# Altium integrated library TI_Logic_Specialty_Logic.IntLib: 2504 symbols (part 11 of 81)
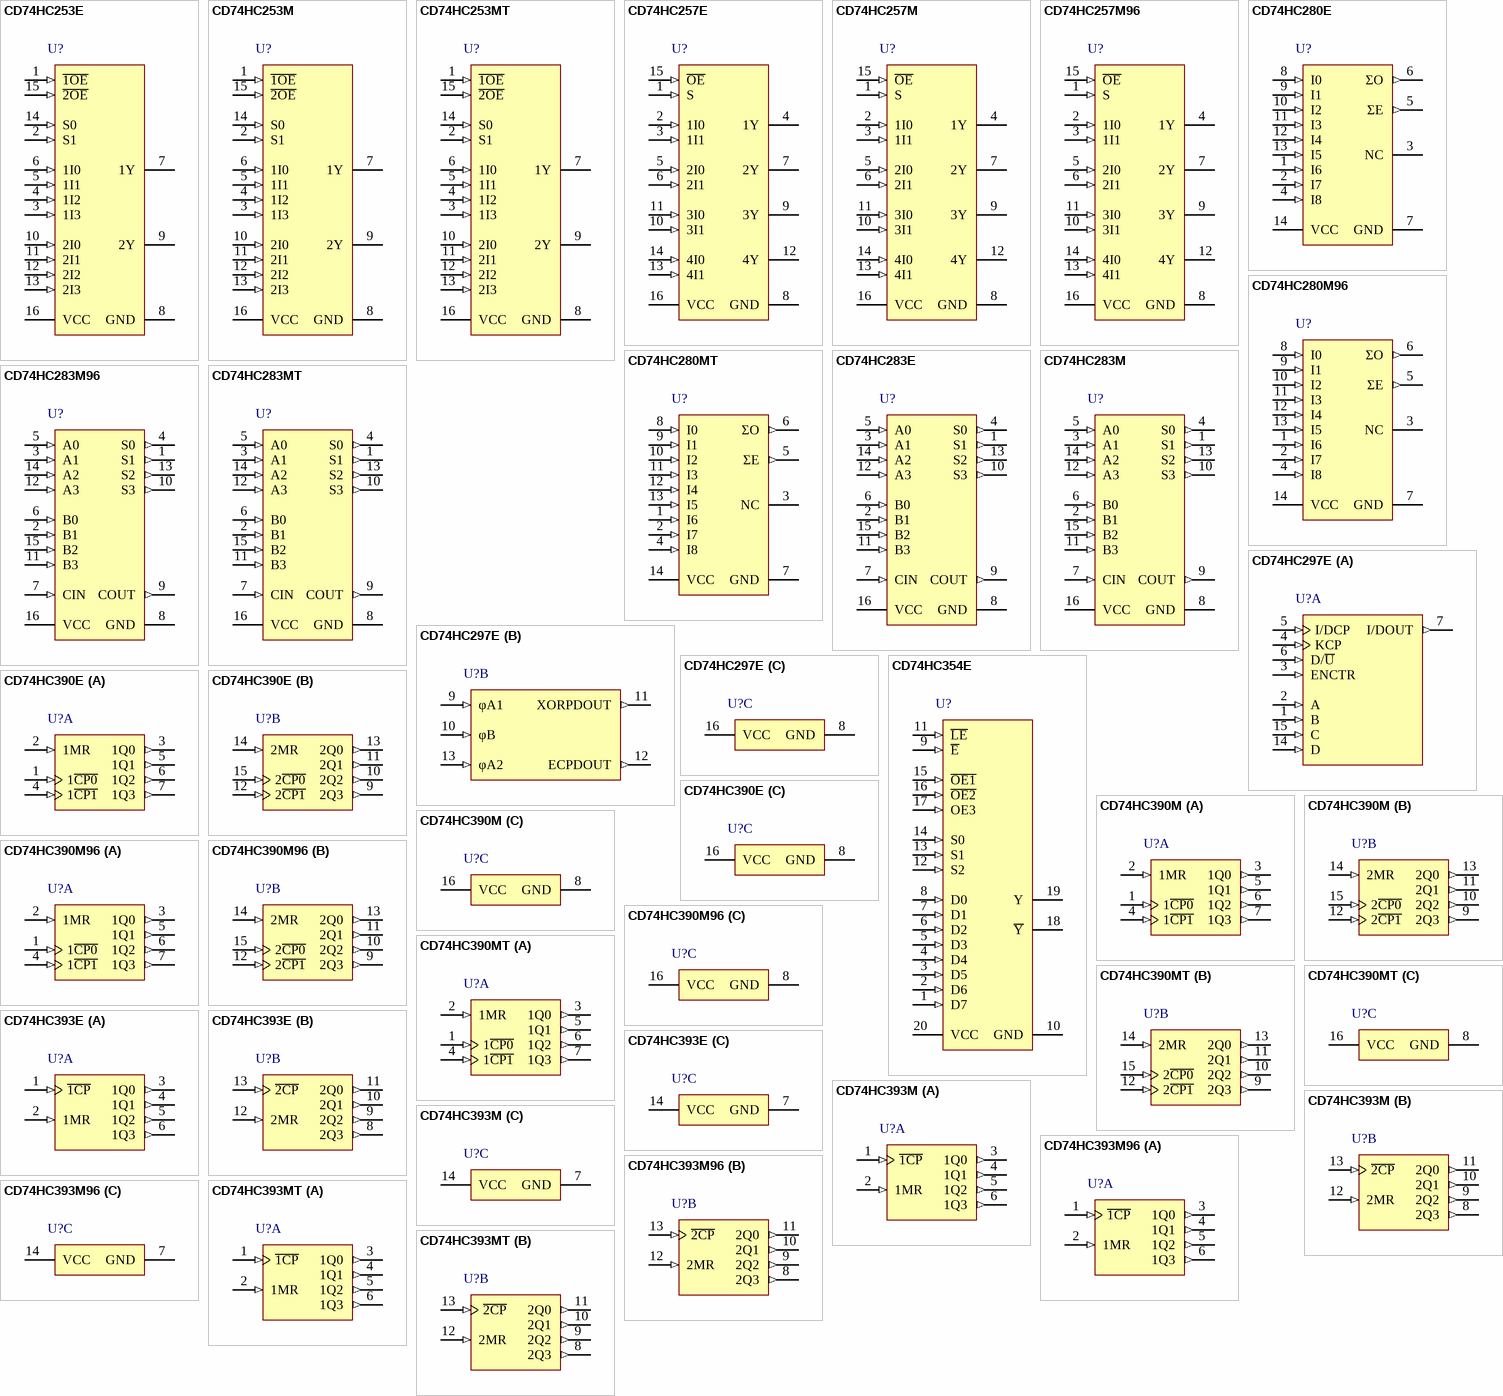
[diagram p114: symbols CD74HC253E to CD74HC393MT]

## CD74HC253E
designator U?
High Speed CMOS Logic Dual 4-Input Multiplexers, N0016A, TUBE; Generic Part Number: CD74HC253; Manufacturer: Texas Instruments; PartNumber: CD74HC253E; VCC(Min)(V): 2; VCC(Max)(V): 6; Function: Encoder/Multiplexer; ICC @ Nom Voltage(Max)(mA): 0.08; Input Type: LVTTL/CMOS; Bits(#): 4; F @ Nom Voltage(Max)(Mhz): 28; Configuration: 4：1; Rating: Catalog; Technology Family: HC; Voltage(Nom)(V): 3.3,5; Schmitt Trigger: No; Output Drive (IOL/IOH)(Max)(mA): 7.8/-7.8; tpd @ Nom Voltage(Max)(ns): 35; DatasheetVersion: SCHS170B; PackageReference: N0016A; Supplier 1: Mouser; Supplier Part Number 1: 595-CD74HC253E; Supplier 2: Digi-Key; Supplier Part Number 2: 296-33059-5-ND; Output Type: CMOS; Operating Temperature Range(C): -55 to 125; Type: 3-State Output; Channels(#): 2; Code_JEDEC: MS-001; ComponentLink1Description: Manufacturer URL; ComponentLink1URL: http://www.ti.com/; ComponentLink2Description: Datasheet; ComponentLink2URL: http://www.ti.com/lit/ds/symlink/cd74hc253.pdf; ComponentLink3Description: Package Specification; ComponentLink3URL: http://www.ti.com/lit/ml/mpdi002c/mpdi002c.pdf
footprint N0016A (DIP, 16-Leads, Body 19.7x6.6mm, Pitch 2.54mm)
pins: 1 ~{1OE} (in), 2 S1 (in), 3 1I3 (in), 4 1I2 (in), 5 1I1 (in), 6 1I0 (in), 7 1Y (hiz), 8 GND (power), 9 2Y (hiz), 10 2I0 (in), 11 2I1 (in), 12 2I2 (in), 13 2I3 (in), 14 S0 (in), 15 ~{2OE} (in), 16 VCC (power)

## CD74HC253M
designator U?
High Speed CMOS Logic Dual 4-Input Multiplexers, D0016A, TUBE; Generic Part Number: CD74HC253; Manufacturer: Texas Instruments; PartNumber: CD74HC253M; VCC(Min)(V): 2; VCC(Max)(V): 6; Function: Encoder/Multiplexer; ICC @ Nom Voltage(Max)(mA): 0.08; Input Type: LVTTL/CMOS; Bits(#): 4; F @ Nom Voltage(Max)(Mhz): 28; Configuration: 4：1; Rating: Catalog; Technology Family: HC; Voltage(Nom)(V): 3.3,5; Schmitt Trigger: No; Output Drive (IOL/IOH)(Max)(mA): 7.8/-7.8; tpd @ Nom Voltage(Max)(ns): 35; DatasheetVersion: SCHS170B; PackageReference: D0016A; Supplier 1: Mouser; Supplier Part Number 1: 595-CD74HC253M; Supplier 2: Digi-Key; Supplier Part Number 2: 296-33060-5-ND; Output Type: CMOS; Operating Temperature Range(C): -55 to 125; Type: 3-State Output; Channels(#): 2; Code_JEDEC: MS-012 variation AC; ComponentLink1Description: Manufacturer URL; ComponentLink1URL: http://www.ti.com/; ComponentLink2Description: Datasheet; ComponentLink2URL: http://www.ti.com/lit/ds/symlink/cd74hc253.pdf; ComponentLink3Description: Package Specification; ComponentLink3URL: http://www.ti.com/lit/ml/mpds178g/mpds178g.pdf
footprint D0016A_N (SOIC, 16-Leads, Body 10x4mm, Pitch 1.27mm, IPC Medium Density)
footprint D0016A_M (SOIC, 16-Leads, Body 10x4mm, Pitch 1.27mm, IPC Low Density)
footprint D0016A_L (SOIC, 16-Leads, Body 10x4mm, Pitch 1.27mm, IPC High Density)
pins: 1 ~{1OE} (in), 2 S1 (in), 3 1I3 (in), 4 1I2 (in), 5 1I1 (in), 6 1I0 (in), 7 1Y (hiz), 8 GND (power), 9 2Y (hiz), 10 2I0 (in), 11 2I1 (in), 12 2I2 (in), 13 2I3 (in), 14 S0 (in), 15 ~{2OE} (in), 16 VCC (power)

## CD74HC253MT
designator U?
High Speed CMOS Logic Dual 4-Input Multiplexers, D0016A, SMALL T&R; Generic Part Number: CD74HC253; Manufacturer: Texas Instruments; PartNumber: CD74HC253MT; VCC(Min)(V): 2; VCC(Max)(V): 6; Function: Encoder/Multiplexer; ICC @ Nom Voltage(Max)(mA): 0.08; Input Type: LVTTL/CMOS; Bits(#): 4; F @ Nom Voltage(Max)(Mhz): 28; Configuration: 4：1; Rating: Catalog; Technology Family: HC; Voltage(Nom)(V): 3.3,5; Schmitt Trigger: No; Output Drive (IOL/IOH)(Max)(mA): 7.8/-7.8; tpd @ Nom Voltage(Max)(ns): 35; DatasheetVersion: SCHS170B; PackageReference: D0016A; Supplier 1: Mouser; Supplier Part Number 1: 595-CD74HC253MT; Supplier 2: Digi-Key; Supplier Part Number 2: 296-32063-2-ND; Supplier 3: Digi-Key; Supplier Part Number 3: 296-32063-1-ND; Supplier 4: Digi-Key; Supplier Part Number 4: 296-32063-6-ND; Output Type: CMOS; Operating Temperature Range(C): -55 to 125; Type: 3-State Output; Channels(#): 2; Code_JEDEC: MS-012 variation AC; ComponentLink1Description: Manufacturer URL; ComponentLink1URL: http://www.ti.com/; ComponentLink2Description: Datasheet; ComponentLink2URL: http://www.ti.com/lit/ds/symlink/cd74hc253.pdf; ComponentLink3Description: Package Specification; ComponentLink3URL: http://www.ti.com/lit/ml/mpds178g/mpds178g.pdf
footprint D0016A_N (SOIC, 16-Leads, Body 10x4mm, Pitch 1.27mm, IPC Medium Density)
footprint D0016A_M (SOIC, 16-Leads, Body 10x4mm, Pitch 1.27mm, IPC Low Density)
footprint D0016A_L (SOIC, 16-Leads, Body 10x4mm, Pitch 1.27mm, IPC High Density)
pins: 1 ~{1OE} (in), 2 S1 (in), 3 1I3 (in), 4 1I2 (in), 5 1I1 (in), 6 1I0 (in), 7 1Y (hiz), 8 GND (power), 9 2Y (hiz), 10 2I0 (in), 11 2I1 (in), 12 2I2 (in), 13 2I3 (in), 14 S0 (in), 15 ~{2OE} (in), 16 VCC (power)

## CD74HC257E
designator U?
High Speed CMOS Logic Quad 2-Input Multiplexers with Non-Inverting 3-State Outputs, N0016A, TUBE; Generic Part Number: CD74HC257; Manufacturer: Texas Instruments; PartNumber: CD74HC257E; VCC(Min)(V): 2; VCC(Max)(V): 6; Function: Encoder/Multiplexer; ICC @ Nom Voltage(Max)(mA): 0.08; Input Type: LVTTL/CMOS; F @ Nom Voltage(Max)(Mhz): 28; Configuration: 2：1; Channels(#): 4; Rating: Catalog; Technology Family: HC; Voltage(Nom)(V): 3.3,5; Schmitt Trigger: No; Output Drive (IOL/IOH)(Max)(mA): 7.8/-7.8; tpd @ Nom Voltage(Max)(ns): 38; DatasheetVersion: SCHS171D; PackageReference: N0016A; Supplier 1: Mouser; Supplier Part Number 1: 595-CD74HC257E; Supplier 2: Digi-Key; Supplier Part Number 2: 296-33061-5-ND; Output Type: CMOS; Bits(#): 2; Operating Temperature Range(C): -55 to 125; Type: 3-State Output; Code_JEDEC: MS-001; ComponentLink1Description: Manufacturer URL; ComponentLink1URL: http://www.ti.com/; ComponentLink2Description: Datasheet; ComponentLink2URL: http://www.ti.com/lit/ds/symlink/cd74hc257.pdf; ComponentLink3Description: Package Specification; ComponentLink3URL: http://www.ti.com/lit/ml/mpdi002c/mpdi002c.pdf
footprint N0016A (DIP, 16-Leads, Body 19.7x6.6mm, Pitch 2.54mm)
pins: 1 S (in), 2 1I0 (in), 3 1I1 (in), 4 1Y (hiz), 5 2I0 (in), 6 2I1 (in), 7 2Y (hiz), 8 GND (power), 9 3Y (hiz), 10 3I1 (in), 11 3I0 (in), 12 4Y (hiz), 13 4I1 (in), 14 4I0 (in), 15 ~{OE} (in), 16 VCC (power)

## CD74HC257M
designator U?
High Speed CMOS Logic Quad 2-Input Multiplexers with Non-Inverting 3-State Outputs, D0016A, TUBE; Generic Part Number: CD74HC257; Manufacturer: Texas Instruments; PartNumber: CD74HC257M; VCC(Min)(V): 2; VCC(Max)(V): 6; Function: Encoder/Multiplexer; ICC @ Nom Voltage(Max)(mA): 0.08; Input Type: LVTTL/CMOS; F @ Nom Voltage(Max)(Mhz): 28; Configuration: 2：1; Channels(#): 4; Rating: Catalog; Technology Family: HC; Voltage(Nom)(V): 3.3,5; Schmitt Trigger: No; Output Drive (IOL/IOH)(Max)(mA): 7.8/-7.8; tpd @ Nom Voltage(Max)(ns): 38; DatasheetVersion: SCHS171D; PackageReference: D0016A; Supplier 1: Mouser; Supplier Part Number 1: 595-CD74HC257M; Supplier 2: Digi-Key; Supplier Part Number 2: 296-33062-5-ND; Output Type: CMOS; Bits(#): 2; Operating Temperature Range(C): -55 to 125; Type: 3-State Output; Code_JEDEC: MS-012 variation AC; ComponentLink1Description: Manufacturer URL; ComponentLink1URL: http://www.ti.com/; ComponentLink2Description: Datasheet; ComponentLink2URL: http://www.ti.com/lit/ds/symlink/cd74hc257.pdf; ComponentLink3Description: Package Specification; ComponentLink3URL: http://www.ti.com/lit/ml/mpds178g/mpds178g.pdf
footprint D0016A_N (SOIC, 16-Leads, Body 10x4mm, Pitch 1.27mm, IPC Medium Density)
footprint D0016A_M (SOIC, 16-Leads, Body 10x4mm, Pitch 1.27mm, IPC Low Density)
footprint D0016A_L (SOIC, 16-Leads, Body 10x4mm, Pitch 1.27mm, IPC High Density)
pins: 1 S (in), 2 1I0 (in), 3 1I1 (in), 4 1Y (hiz), 5 2I0 (in), 6 2I1 (in), 7 2Y (hiz), 8 GND (power), 9 3Y (hiz), 10 3I1 (in), 11 3I0 (in), 12 4Y (hiz), 13 4I1 (in), 14 4I0 (in), 15 ~{OE} (in), 16 VCC (power)

## CD74HC257M96
designator U?
High Speed CMOS Logic Quad 2-Input Multiplexers with Non-Inverting 3-State Outputs, D0016A, LARGE T&R; Generic Part Number: CD74HC257; Manufacturer: Texas Instruments; PartNumber: CD74HC257M96; VCC(Min)(V): 2; VCC(Max)(V): 6; Function: Encoder/Multiplexer; ICC @ Nom Voltage(Max)(mA): 0.08; Input Type: LVTTL/CMOS; F @ Nom Voltage(Max)(Mhz): 28; Configuration: 2：1; Channels(#): 4; Rating: Catalog; Technology Family: HC; Voltage(Nom)(V): 3.3,5; Schmitt Trigger: No; Output Drive (IOL/IOH)(Max)(mA): 7.8/-7.8; tpd @ Nom Voltage(Max)(ns): 38; DatasheetVersion: SCHS171D; PackageReference: D0016A; Supplier 1: Mouser; Supplier Part Number 1: 595-CD74HC257M96; Supplier 2: Digi-Key; Supplier Part Number 2: CD74HC257M96-ND; Output Type: CMOS; Bits(#): 2; Operating Temperature Range(C): -55 to 125; Type: 3-State Output; Code_JEDEC: MS-012 variation AC; ComponentLink1Description: Manufacturer URL; ComponentLink1URL: http://www.ti.com/; ComponentLink2Description: Datasheet; ComponentLink2URL: http://www.ti.com/lit/ds/symlink/cd74hc257.pdf; ComponentLink3Description: Package Specification; ComponentLink3URL: http://www.ti.com/lit/ml/mpds178g/mpds178g.pdf
footprint D0016A_N (SOIC, 16-Leads, Body 10x4mm, Pitch 1.27mm, IPC Medium Density)
footprint D0016A_M (SOIC, 16-Leads, Body 10x4mm, Pitch 1.27mm, IPC Low Density)
footprint D0016A_L (SOIC, 16-Leads, Body 10x4mm, Pitch 1.27mm, IPC High Density)
pins: 1 S (in), 2 1I0 (in), 3 1I1 (in), 4 1Y (hiz), 5 2I0 (in), 6 2I1 (in), 7 2Y (hiz), 8 GND (power), 9 3Y (hiz), 10 3I1 (in), 11 3I0 (in), 12 4Y (hiz), 13 4I1 (in), 14 4I0 (in), 15 ~{OE} (in), 16 VCC (power)

## CD74HC280E
designator U?
High Speed CMOS Logic 9-Bit Odd/Even Parity Generator/Checker, N0014A, TUBE; Generic Part Number: CD74HC280; Manufacturer: Texas Instruments; PartNumber: CD74HC280E; VCC(Min)(V): 2; VCC(Max)(V): 6; Inputs: 9; ICC @ Nom Voltage(Max)(mA): 0.08; Input Type: LVTTL/CMOS; F @ Nom Voltage(Max)(Mhz): 28; Rating: Catalog; Technology Family: HC; Voltage(Nom)(V): 3.3,5; Schmitt Trigger: No; Output Drive (IOL/IOH)(Max)(mA): 5.2/-5.2; tpd @ Nom Voltage(Max)(ns): 43; DatasheetVersion: SCHS175D; PackageReference: N0014A; Supplier 1: Mouser; Supplier Part Number 1: 595-CD74HC280E; Supplier 2: Digi-Key; Supplier Part Number 2: 296-33065-5-ND; Output Type: CMOS; Function: Parity; Bits(#): 2; Operating Temperature Range(C): -55 to 125; Type: Other; Code_JEDEC: MS-001; ComponentLink1Description: Manufacturer URL; ComponentLink1URL: http://www.ti.com/; ComponentLink2Description: Datasheet; ComponentLink2URL: http://www.ti.com/lit/ds/symlink/cd74hc280.pdf; ComponentLink3Description: Package Specification; ComponentLink3URL: http://www.ti.com/lit/ml/mpdi002c/mpdi002c.pdf
footprint N0014A (DIP, 14-Leads, Body 19.7x6.6mm, Pitch 2.54mm)
pins: 1 I6 (in), 2 I7 (in), 3 NC, 4 I8 (in), 5 ΣE (out), 6 ΣO (out), 7 GND (power), 8 I0 (in), 9 I1 (in), 10 I2 (in), 11 I3 (in), 12 I4 (in), 13 I5 (in), 14 VCC (power)

## CD74HC280M96
designator U?
High Speed CMOS Logic 9-Bit Odd/Even Parity Generator/Checker, D0014A, LARGE T&R; Generic Part Number: CD74HC280; Manufacturer: Texas Instruments; PartNumber: CD74HC280M96; VCC(Min)(V): 2; VCC(Max)(V): 6; Inputs: 9; ICC @ Nom Voltage(Max)(mA): 0.08; Input Type: LVTTL/CMOS; F @ Nom Voltage(Max)(Mhz): 28; Rating: Catalog; Technology Family: HC; Voltage(Nom)(V): 3.3,5; Schmitt Trigger: No; Output Drive (IOL/IOH)(Max)(mA): 5.2/-5.2; tpd @ Nom Voltage(Max)(ns): 43; DatasheetVersion: SCHS175D; PackageReference: D0014A; Supplier 1: Mouser; Supplier Part Number 1: 595-CD74HC280M96; Supplier 2: Digi-Key; Supplier Part Number 2: 296-14518-2-ND; Supplier 3: Digi-Key; Supplier Part Number 3: 296-14518-1-ND; Supplier 4: Digi-Key; Supplier Part Number 4: 296-14518-6-ND; Output Type: CMOS; Function: Parity; Bits(#): 2; Operating Temperature Range(C): -55 to 125; Type: Other; Code_JEDEC: MS-012; ComponentLink1Description: Manufacturer URL; ComponentLink1URL: http://www.ti.com/; ComponentLink2Description: Datasheet; ComponentLink2URL: http://www.ti.com/lit/ds/symlink/cd74hc280.pdf; ComponentLink3Description: Package Specification; ComponentLink3URL: http://www.ti.com/lit/ml/mpds177g/mpds177g.pdf
footprint D0014A_N (SOIC, 14-Leads, Body 8.75x4mm, Pitch 1.27mm, IPC Medium Density)
footprint D0014A_M (SOIC, 14-Leads, Body 8.75x4mm, Pitch 1.27mm, IPC Low Density)
footprint D0014A_L (SOIC, 14-Leads, Body 8.75x4mm, Pitch 1.27mm, IPC High Density)
pins: 1 I6 (in), 2 I7 (in), 3 NC, 4 I8 (in), 5 ΣE (out), 6 ΣO (out), 7 GND (power), 8 I0 (in), 9 I1 (in), 10 I2 (in), 11 I3 (in), 12 I4 (in), 13 I5 (in), 14 VCC (power)

## CD74HC280MT
designator U?
High Speed CMOS Logic 9-Bit Odd/Even Parity Generator/Checker, D0014A, SMALL T&R; Generic Part Number: CD74HC280; Manufacturer: Texas Instruments; PartNumber: CD74HC280MT; VCC(Min)(V): 2; VCC(Max)(V): 6; Inputs: 9; ICC @ Nom Voltage(Max)(mA): 0.08; Input Type: LVTTL/CMOS; F @ Nom Voltage(Max)(Mhz): 28; Rating: Catalog; Technology Family: HC; Voltage(Nom)(V): 3.3,5; Schmitt Trigger: No; Output Drive (IOL/IOH)(Max)(mA): 5.2/-5.2; tpd @ Nom Voltage(Max)(ns): 43; DatasheetVersion: SCHS175D; PackageReference: D0014A; Supplier 1: Mouser; Supplier Part Number 1: 595-CD74HC280MT; Supplier 2: Digi-Key; Supplier Part Number 2: 296-32065-2-ND; Supplier 3: Digi-Key; Supplier Part Number 3: 296-32065-1-ND; Supplier 4: Digi-Key; Supplier Part Number 4: 296-32065-6-ND; Output Type: CMOS; Function: Parity; Bits(#): 2; Operating Temperature Range(C): -55 to 125; Type: Other; Code_JEDEC: MS-012; ComponentLink1Description: Manufacturer URL; ComponentLink1URL: http://www.ti.com/; ComponentLink2Description: Datasheet; ComponentLink2URL: http://www.ti.com/lit/ds/symlink/cd74hc280.pdf; ComponentLink3Description: Package Specification; ComponentLink3URL: http://www.ti.com/lit/ml/mpds177g/mpds177g.pdf
footprint D0014A_N (SOIC, 14-Leads, Body 8.75x4mm, Pitch 1.27mm, IPC Medium Density)
footprint D0014A_M (SOIC, 14-Leads, Body 8.75x4mm, Pitch 1.27mm, IPC Low Density)
footprint D0014A_L (SOIC, 14-Leads, Body 8.75x4mm, Pitch 1.27mm, IPC High Density)
pins: 1 I6 (in), 2 I7 (in), 3 NC, 4 I8 (in), 5 ΣE (out), 6 ΣO (out), 7 GND (power), 8 I0 (in), 9 I1 (in), 10 I2 (in), 11 I3 (in), 12 I4 (in), 13 I5 (in), 14 VCC (power)

## CD74HC283E
designator U?
High Speed CMOS Logic 4-Bit Binary Full Adder with Fast Carry, N0016A, TUBE; Generic Part Number: CD74HC283; Manufacturer: Texas Instruments; PartNumber: CD74HC283E; VCC(Min)(V): 2; VCC(Max)(V): 6; Inputs: 9; Function: Arithmetic; ICC @ Nom Voltage(Max)(mA): 0.08; Input Type: LVTTL/CMOS; Bits(#): 4; F @ Nom Voltage(Max)(Mhz): 28; Rating: Catalog; Technology Family: HC; Voltage(Nom)(V): 3.3,5; Schmitt Trigger: No; Output Drive (IOL/IOH)(Max)(mA): 5.2/-5.2; tpd @ Nom Voltage(Max)(ns): 42; DatasheetVersion: SCHS176D; PackageReference: N0016A; Supplier 1: Mouser; Supplier Part Number 1: 595-CD74HC283E; Supplier 2: Digi-Key; Supplier Part Number 2: 296-14519-5-ND; Output Type: CMOS; Operating Temperature Range(C): -55 to 125; Type: Binary; Code_JEDEC: MS-001; ComponentLink1Description: Manufacturer URL; ComponentLink1URL: http://www.ti.com/; ComponentLink2Description: Datasheet; ComponentLink2URL: http://www.ti.com/lit/ds/symlink/cd74hc283.pdf; ComponentLink3Description: Package Specification; ComponentLink3URL: http://www.ti.com/lit/ml/mpdi002c/mpdi002c.pdf
footprint N0016A (DIP, 16-Leads, Body 19.7x6.6mm, Pitch 2.54mm)
pins: 1 S1 (out), 2 B1 (in), 3 A1 (in), 4 S0 (out), 5 A0 (in), 6 B0 (in), 7 CIN (in), 8 GND (power), 9 COUT (out), 10 S3 (out), 11 B3 (in), 12 A3 (in), 13 S2 (out), 14 A2 (in), 15 B2 (in), 16 VCC (power)

## CD74HC283M
designator U?
High Speed CMOS Logic 4-Bit Binary Full Adder with Fast Carry, D0016A, TUBE; Generic Part Number: CD74HC283; Manufacturer: Texas Instruments; PartNumber: CD74HC283M; VCC(Min)(V): 2; VCC(Max)(V): 6; Inputs: 9; Function: Arithmetic; ICC @ Nom Voltage(Max)(mA): 0.08; Input Type: LVTTL/CMOS; Bits(#): 4; F @ Nom Voltage(Max)(Mhz): 28; Rating: Catalog; Technology Family: HC; Voltage(Nom)(V): 3.3,5; Schmitt Trigger: No; Output Drive (IOL/IOH)(Max)(mA): 5.2/-5.2; tpd @ Nom Voltage(Max)(ns): 42; DatasheetVersion: SCHS176D; PackageReference: D0016A; Supplier 1: Mouser; Supplier Part Number 1: 595-CD74HC283M; Supplier 2: Digi-Key; Supplier Part Number 2: 296-33066-5-ND; Output Type: CMOS; Operating Temperature Range(C): -55 to 125; Type: Binary; Code_JEDEC: MS-012 variation AC; ComponentLink1Description: Manufacturer URL; ComponentLink1URL: http://www.ti.com/; ComponentLink2Description: Datasheet; ComponentLink2URL: http://www.ti.com/lit/ds/symlink/cd74hc283.pdf; ComponentLink3Description: Package Specification; ComponentLink3URL: http://www.ti.com/lit/ml/mpds178g/mpds178g.pdf
footprint D0016A_N (SOIC, 16-Leads, Body 10x4mm, Pitch 1.27mm, IPC Medium Density)
footprint D0016A_M (SOIC, 16-Leads, Body 10x4mm, Pitch 1.27mm, IPC Low Density)
footprint D0016A_L (SOIC, 16-Leads, Body 10x4mm, Pitch 1.27mm, IPC High Density)
pins: 1 S1 (out), 2 B1 (in), 3 A1 (in), 4 S0 (out), 5 A0 (in), 6 B0 (in), 7 CIN (in), 8 GND (power), 9 COUT (out), 10 S3 (out), 11 B3 (in), 12 A3 (in), 13 S2 (out), 14 A2 (in), 15 B2 (in), 16 VCC (power)

## CD74HC283M96
designator U?
High Speed CMOS Logic 4-Bit Binary Full Adder with Fast Carry, D0016A, LARGE T&R; Generic Part Number: CD74HC283; Manufacturer: Texas Instruments; PartNumber: CD74HC283M96; VCC(Min)(V): 2; VCC(Max)(V): 6; Inputs: 9; Function: Arithmetic; ICC @ Nom Voltage(Max)(mA): 0.08; Input Type: LVTTL/CMOS; Bits(#): 4; F @ Nom Voltage(Max)(Mhz): 28; Rating: Catalog; Technology Family: HC; Voltage(Nom)(V): 3.3,5; Schmitt Trigger: No; Output Drive (IOL/IOH)(Max)(mA): 5.2/-5.2; tpd @ Nom Voltage(Max)(ns): 42; DatasheetVersion: SCHS176D; PackageReference: D0016A; Supplier 1: Mouser; Supplier Part Number 1: 595-CD74HC283M96; Supplier 2: Digi-Key; Supplier Part Number 2: 296-31579-2-ND; Supplier 3: Digi-Key; Supplier Part Number 3: 296-31579-1-ND; Supplier 4: Digi-Key; Supplier Part Number 4: 296-31579-6-ND; Output Type: CMOS; Operating Temperature Range(C): -55 to 125; Type: Binary; Code_JEDEC: MS-012 variation AC; ComponentLink1Description: Manufacturer URL; ComponentLink1URL: http://www.ti.com/; ComponentLink2Description: Datasheet; ComponentLink2URL: http://www.ti.com/lit/ds/symlink/cd74hc283.pdf; ComponentLink3Description: Package Specification; ComponentLink3URL: http://www.ti.com/lit/ml/mpds178g/mpds178g.pdf
footprint D0016A_N (SOIC, 16-Leads, Body 10x4mm, Pitch 1.27mm, IPC Medium Density)
footprint D0016A_M (SOIC, 16-Leads, Body 10x4mm, Pitch 1.27mm, IPC Low Density)
footprint D0016A_L (SOIC, 16-Leads, Body 10x4mm, Pitch 1.27mm, IPC High Density)
pins: 1 S1 (out), 2 B1 (in), 3 A1 (in), 4 S0 (out), 5 A0 (in), 6 B0 (in), 7 CIN (in), 8 GND (power), 9 COUT (out), 10 S3 (out), 11 B3 (in), 12 A3 (in), 13 S2 (out), 14 A2 (in), 15 B2 (in), 16 VCC (power)

## CD74HC283MT
designator U?
High Speed CMOS Logic 4-Bit Binary Full Adder with Fast Carry, D0016A, SMALL T&R; Generic Part Number: CD74HC283; Manufacturer: Texas Instruments; PartNumber: CD74HC283MT; VCC(Min)(V): 2; VCC(Max)(V): 6; Inputs: 9; Function: Arithmetic; ICC @ Nom Voltage(Max)(mA): 0.08; Input Type: LVTTL/CMOS; Bits(#): 4; F @ Nom Voltage(Max)(Mhz): 28; Rating: Catalog; Technology Family: HC; Voltage(Nom)(V): 3.3,5; Schmitt Trigger: No; Output Drive (IOL/IOH)(Max)(mA): 5.2/-5.2; tpd @ Nom Voltage(Max)(ns): 42; DatasheetVersion: SCHS176D; PackageReference: D0016A; Supplier 1: Mouser; Supplier Part Number 1: 595-CD74HC283MT; Supplier 2: Digi-Key; Supplier Part Number 2: CD74HC283MT-ND; Output Type: CMOS; Operating Temperature Range(C): -55 to 125; Type: Binary; Code_JEDEC: MS-012 variation AC; ComponentLink1Description: Manufacturer URL; ComponentLink1URL: http://www.ti.com/; ComponentLink2Description: Datasheet; ComponentLink2URL: http://www.ti.com/lit/ds/symlink/cd74hc283.pdf; ComponentLink3Description: Package Specification; ComponentLink3URL: http://www.ti.com/lit/ml/mpds178g/mpds178g.pdf
footprint D0016A_N (SOIC, 16-Leads, Body 10x4mm, Pitch 1.27mm, IPC Medium Density)
footprint D0016A_M (SOIC, 16-Leads, Body 10x4mm, Pitch 1.27mm, IPC Low Density)
footprint D0016A_L (SOIC, 16-Leads, Body 10x4mm, Pitch 1.27mm, IPC High Density)
pins: 1 S1 (out), 2 B1 (in), 3 A1 (in), 4 S0 (out), 5 A0 (in), 6 B0 (in), 7 CIN (in), 8 GND (power), 9 COUT (out), 10 S3 (out), 11 B3 (in), 12 A3 (in), 13 S2 (out), 14 A2 (in), 15 B2 (in), 16 VCC (power)

## CD74HC297E
designator U?
High Speed CMOS Logic Digital Phase-Locked-Loop, N0016A, TUBE; Generic Part Number: CD74HC297; Manufacturer: Texas Instruments; PartNumber: CD74HC297E; VCC(Min)(V): 2; VCC(Max)(V): 6; ICC @ Nom Voltage(Max)(mA): 0.08; Bits(#): 1; F @ Nom Voltage(Max)(Mhz): 70; Rating: Catalog; Technology Family: HC; Voltage(Nom)(V): 3.3,5; Schmitt Trigger: No; Output Drive (IOL/IOH)(Max)(mA): 5.2/-7.8; tpd @ Nom Voltage(Max)(ns): 43; DatasheetVersion: SCHS177B; PackageReference: N0016A; Supplier 1: Mouser; Supplier Part Number 1: 595-CD74HC297E; Supplier 2: Digi-Key; Supplier Part Number 2: 296-9193-5-ND; Output Type: CMOS; Input Type: CMOS; Operating Temperature Range(C): -55 to 125; ComponentLink1Description: Manufacturer URL; ComponentLink1URL: http://www.ti.com/; ComponentLink2Description: Datasheet; ComponentLink2URL: http://www.ti.com/lit/ds/symlink/cd74hc297.pdf
footprint N0016A (DIP, 16-Leads, Body 19.7x6.6mm, Pitch 2.54mm)
part A pins: 1 B (in), 2 A (in), 3 ENCTR (in), 4 KCP (in), 5 I/DCP (in), 6 D/~{U} (in), 7 I/DOUT (out), 14 D (in), 15 C (in)
part B pins: 9 φA1 (in), 10 φB (in), 11 XORPDOUT (out), 12 ECPDOUT (out), 13 φA2 (in)
part C pins: 8 GND (power), 16 VCC (power)

## CD74HC354E
designator U?
High Speed CMOS Logic 8-Input Multiplexer/Register with 3-State Outputs, N0020A, TUBE; Generic Part Number: CD74HC354; Manufacturer: Texas Instruments; PartNumber: CD74HC354E; VCC(Min)(V): 2; VCC(Max)(V): 6; Function: Encoder/Multiplexer; ICC @ Nom Voltage(Max)(mA): 0.08; Input Type: LVTTL/CMOS; Bits(#): 8; F @ Nom Voltage(Max)(Mhz): 28; Configuration: 8：1; Channels(#): 1; Rating: Catalog; Technology Family: HC; Voltage(Nom)(V): 3.3,5; Schmitt Trigger: No; Output Drive (IOL/IOH)(Max)(mA): 7.8/-7.8; tpd @ Nom Voltage(Max)(ns): 42; DatasheetVersion: SCHS277D; PackageReference: N0020A; Supplier 1: Mouser; Supplier Part Number 1: 595-CD74HC354E; Supplier 2: Digi-Key; Supplier Part Number 2: 296-9198-5-ND; Output Type: CMOS; Operating Temperature Range(C): -55 to 125; Type: 3-State Output; Code_JEDEC: MS-001; ComponentLink1Description: Manufacturer URL; ComponentLink1URL: http://www.ti.com/; ComponentLink2Description: Datasheet; ComponentLink2URL: http://www.ti.com/lit/ds/symlink/cd74hc354.pdf; ComponentLink3Description: Package Specification; ComponentLink3URL: http://www.ti.com/lit/ml/mpdi002c/mpdi002c.pdf
footprint N0020A (DIP, 20-Leads, Body 26.9x6.6mm, Pitch 2.54mm)
pins: 1 D7 (in), 2 D6 (in), 3 D5 (in), 4 D4 (in), 5 D3 (in), 6 D2 (in), 7 D1 (in), 8 D0 (in), 9 ~{E} (in), 10 GND (power), 11 ~{LE} (in), 12 S2 (in), 13 S1 (in), 14 S0 (in), 15 ~{OE1} (in), 16 ~{OE2} (in), 17 OE3 (in), 18 ~{Y} (hiz), 19 Y (hiz), 20 VCC (power)

## CD74HC390E
designator U?
High Speed CMOS Logic Dual Decade Ripple Counters, N0016A, TUBE; Generic Part Number: CD74HC390; Manufacturer: Texas Instruments; PartNumber: CD74HC390E; VCC(Min)(V): 2; VCC(Max)(V): 6; Inputs: 1; ICC @ Nom Voltage(Max)(mA): 0.08; Input Type: LVTTL/CMOS; Bits(#): 4; F @ Nom Voltage(Max)(Mhz): 28; Rating: Catalog; Technology Family: HC; Voltage(Nom)(V): 3.3,5; Schmitt Trigger: No; Output Drive (IOL/IOH)(Max)(mA): 5.2/-5.2; tpd @ Nom Voltage(Max)(ns): 52; DatasheetVersion: SCHS185C; PackageReference: N0016A; Supplier 1: Mouser; Supplier Part Number 1: 595-CD74HC390E; Supplier 2: Digi-Key; Supplier Part Number 2: 296-9199-5-ND; Output Type: CMOS; Function: Counter; Operating Temperature Range(C): -55 to 125; Type: Decade; Code_JEDEC: MS-001; ComponentLink1Description: Manufacturer URL; ComponentLink1URL: http://www.ti.com/; ComponentLink2Description: Datasheet; ComponentLink2URL: http://www.ti.com/lit/ds/symlink/cd74hc390.pdf; ComponentLink3Description: Package Specification; ComponentLink3URL: http://www.ti.com/lit/ml/mpdi002c/mpdi002c.pdf
footprint N0016A (DIP, 16-Leads, Body 19.7x6.6mm, Pitch 2.54mm)
part A pins: 1 1~{CP0} (in), 2 1MR (in), 3 1Q0 (out), 4 1~{CP1} (in), 5 1Q1 (out), 6 1Q2 (out), 7 1Q3 (out)
part B pins: 9 2Q3 (out), 10 2Q2 (out), 11 2Q1 (out), 12 2~{CP1} (in), 13 2Q0 (out), 14 2MR (in), 15 2~{CP0} (in)
part C pins: 8 GND (power), 16 VCC (power)

## CD74HC390M
designator U?
High Speed CMOS Logic Dual Decade Ripple Counters, D0016A, TUBE; Generic Part Number: CD74HC390; Manufacturer: Texas Instruments; PartNumber: CD74HC390M; VCC(Min)(V): 2; VCC(Max)(V): 6; Inputs: 1; ICC @ Nom Voltage(Max)(mA): 0.08; Input Type: LVTTL/CMOS; Bits(#): 4; F @ Nom Voltage(Max)(Mhz): 28; Rating: Catalog; Technology Family: HC; Voltage(Nom)(V): 3.3,5; Schmitt Trigger: No; Output Drive (IOL/IOH)(Max)(mA): 5.2/-5.2; tpd @ Nom Voltage(Max)(ns): 52; DatasheetVersion: SCHS185C; PackageReference: D0016A; Supplier 1: Mouser; Supplier Part Number 1: 595-CD74HC390M; Supplier 2: Digi-Key; Supplier Part Number 2: 296-33078-5-ND; Output Type: CMOS; Function: Counter; Operating Temperature Range(C): -55 to 125; Type: Decade; Code_JEDEC: MS-012 variation AC; ComponentLink1Description: Manufacturer URL; ComponentLink1URL: http://www.ti.com/; ComponentLink2Description: Datasheet; ComponentLink2URL: http://www.ti.com/lit/ds/symlink/cd74hc390.pdf; ComponentLink3Description: Package Specification; ComponentLink3URL: http://www.ti.com/lit/ml/mpds178g/mpds178g.pdf
footprint D0016A_N (SOIC, 16-Leads, Body 10x4mm, Pitch 1.27mm, IPC Medium Density)
footprint D0016A_M (SOIC, 16-Leads, Body 10x4mm, Pitch 1.27mm, IPC Low Density)
footprint D0016A_L (SOIC, 16-Leads, Body 10x4mm, Pitch 1.27mm, IPC High Density)
part A pins: 1 1~{CP0} (in), 2 1MR (in), 3 1Q0 (out), 4 1~{CP1} (in), 5 1Q1 (out), 6 1Q2 (out), 7 1Q3 (out)
part B pins: 9 2Q3 (out), 10 2Q2 (out), 11 2Q1 (out), 12 2~{CP1} (in), 13 2Q0 (out), 14 2MR (in), 15 2~{CP0} (in)
part C pins: 8 GND (power), 16 VCC (power)

## CD74HC390M96
designator U?
High Speed CMOS Logic Dual Decade Ripple Counters, D0016A, LARGE T&R; Generic Part Number: CD74HC390; Manufacturer: Texas Instruments; PartNumber: CD74HC390M96; VCC(Min)(V): 2; VCC(Max)(V): 6; Inputs: 1; ICC @ Nom Voltage(Max)(mA): 0.08; Input Type: LVTTL/CMOS; Bits(#): 4; F @ Nom Voltage(Max)(Mhz): 28; Rating: Catalog; Technology Family: HC; Voltage(Nom)(V): 3.3,5; Schmitt Trigger: No; Output Drive (IOL/IOH)(Max)(mA): 5.2/-5.2; tpd @ Nom Voltage(Max)(ns): 52; DatasheetVersion: SCHS185C; PackageReference: D0016A; Supplier 1: Mouser; Supplier Part Number 1: 595-CD74HC390M96; Supplier 2: Digi-Key; Supplier Part Number 2: 296-14526-2-ND; Supplier 3: Digi-Key; Supplier Part Number 3: 296-14526-1-ND; Supplier 4: Digi-Key; Supplier Part Number 4: 296-14526-6-ND; Output Type: CMOS; Function: Counter; Operating Temperature Range(C): -55 to 125; Type: Decade; Code_JEDEC: MS-012 variation AC; ComponentLink1Description: Manufacturer URL; ComponentLink1URL: http://www.ti.com/; ComponentLink2Description: Datasheet; ComponentLink2URL: http://www.ti.com/lit/ds/symlink/cd74hc390.pdf; ComponentLink3Description: Package Specification; ComponentLink3URL: http://www.ti.com/lit/ml/mpds178g/mpds178g.pdf
footprint D0016A_N (SOIC, 16-Leads, Body 10x4mm, Pitch 1.27mm, IPC Medium Density)
footprint D0016A_M (SOIC, 16-Leads, Body 10x4mm, Pitch 1.27mm, IPC Low Density)
footprint D0016A_L (SOIC, 16-Leads, Body 10x4mm, Pitch 1.27mm, IPC High Density)
part A pins: 1 1~{CP0} (in), 2 1MR (in), 3 1Q0 (out), 4 1~{CP1} (in), 5 1Q1 (out), 6 1Q2 (out), 7 1Q3 (out)
part B pins: 9 2Q3 (out), 10 2Q2 (out), 11 2Q1 (out), 12 2~{CP1} (in), 13 2Q0 (out), 14 2MR (in), 15 2~{CP0} (in)
part C pins: 8 GND (power), 16 VCC (power)

## CD74HC390MT
designator U?
High Speed CMOS Logic Dual Decade Ripple Counters, D0016A, SMALL T&R; Generic Part Number: CD74HC390; Manufacturer: Texas Instruments; PartNumber: CD74HC390MT; VCC(Min)(V): 2; VCC(Max)(V): 6; Inputs: 1; ICC @ Nom Voltage(Max)(mA): 0.08; Input Type: LVTTL/CMOS; Bits(#): 4; F @ Nom Voltage(Max)(Mhz): 28; Rating: Catalog; Technology Family: HC; Voltage(Nom)(V): 3.3,5; Schmitt Trigger: No; Output Drive (IOL/IOH)(Max)(mA): 5.2/-5.2; tpd @ Nom Voltage(Max)(ns): 52; DatasheetVersion: SCHS185C; PackageReference: D0016A; Supplier 1: Mouser; Supplier Part Number 1: 595-CD74HC390MT; Supplier 2: Digi-Key; Supplier Part Number 2: CD74HC390MT-ND; Output Type: CMOS; Function: Counter; Operating Temperature Range(C): -55 to 125; Type: Decade; Code_JEDEC: MS-012 variation AC; ComponentLink1Description: Manufacturer URL; ComponentLink1URL: http://www.ti.com/; ComponentLink2Description: Datasheet; ComponentLink2URL: http://www.ti.com/lit/ds/symlink/cd74hc390.pdf; ComponentLink3Description: Package Specification; ComponentLink3URL: http://www.ti.com/lit/ml/mpds178g/mpds178g.pdf
footprint D0016A_N (SOIC, 16-Leads, Body 10x4mm, Pitch 1.27mm, IPC Medium Density)
footprint D0016A_M (SOIC, 16-Leads, Body 10x4mm, Pitch 1.27mm, IPC Low Density)
footprint D0016A_L (SOIC, 16-Leads, Body 10x4mm, Pitch 1.27mm, IPC High Density)
part A pins: 1 1~{CP0} (in), 2 1MR (in), 3 1Q0 (out), 4 1~{CP1} (in), 5 1Q1 (out), 6 1Q2 (out), 7 1Q3 (out)
part B pins: 9 2Q3 (out), 10 2Q2 (out), 11 2Q1 (out), 12 2~{CP1} (in), 13 2Q0 (out), 14 2MR (in), 15 2~{CP0} (in)
part C pins: 8 GND (power), 16 VCC (power)

## CD74HC393E
designator U?
High Speed CMOS Logic Dual 4-Stage Binary Counters, N0014A, TUBE; Generic Part Number: CD74HC393; Manufacturer: Texas Instruments; PartNumber: CD74HC393E; VCC(Min)(V): 2; VCC(Max)(V): 6; Inputs: 1; ICC @ Nom Voltage(Max)(mA): 0.08; Input Type: LVTTL/CMOS; Bits(#): 4; F @ Nom Voltage(Max)(Mhz): 28; Rating: Catalog; Technology Family: HC; Voltage(Nom)(V): 3.3,5; Schmitt Trigger: No; Output Drive (IOL/IOH)(Max)(mA): 5.2/-5.2; tpd @ Nom Voltage(Max)(ns): 60; DatasheetVersion: SCHS186E; PackageReference: N0014A; Supplier 1: Mouser; Supplier Part Number 1: 595-CD74HC393E; Supplier 2: Digi-Key; Supplier Part Number 2: 296-25985-5-ND; Output Type: CMOS; Function: Counter; Operating Temperature Range(C): -55 to 125; Type: Binary; Code_JEDEC: MS-001; ComponentLink1Description: Manufacturer URL; ComponentLink1URL: http://www.ti.com/; ComponentLink2Description: Datasheet; ComponentLink2URL: http://www.ti.com/lit/ds/symlink/cd74hc393.pdf; ComponentLink3Description: Package Specification; ComponentLink3URL: http://www.ti.com/lit/ml/mpdi002c/mpdi002c.pdf
footprint N0014A (DIP, 14-Leads, Body 19.7x6.6mm, Pitch 2.54mm)
part A pins: 1 ~{1CP} (in), 2 1MR (in), 3 1Q0 (out), 4 1Q1 (out), 5 1Q2 (out), 6 1Q3 (out)
part B pins: 8 2Q3 (out), 9 2Q2 (out), 10 2Q1 (out), 11 2Q0 (out), 12 2MR (in), 13 ~{2CP} (in)
part C pins: 7 GND (power), 14 VCC (power)

## CD74HC393M
designator U?
High Speed CMOS Logic Dual 4-Stage Binary Counters, D0014A, TUBE; Generic Part Number: CD74HC393; Manufacturer: Texas Instruments; PartNumber: CD74HC393M; VCC(Min)(V): 2; VCC(Max)(V): 6; Inputs: 1; ICC @ Nom Voltage(Max)(mA): 0.08; Input Type: LVTTL/CMOS; Bits(#): 4; F @ Nom Voltage(Max)(Mhz): 28; Rating: Catalog; Technology Family: HC; Voltage(Nom)(V): 3.3,5; Schmitt Trigger: No; Output Drive (IOL/IOH)(Max)(mA): 5.2/-5.2; tpd @ Nom Voltage(Max)(ns): 60; DatasheetVersion: SCHS186E; PackageReference: D0014A; Supplier 1: Mouser; Supplier Part Number 1: 595-CD74HC393M; Supplier 2: Digi-Key; Supplier Part Number 2: 296-25986-5-ND; Output Type: CMOS; Function: Counter; Operating Temperature Range(C): -55 to 125; Type: Binary; Code_JEDEC: MS-012; ComponentLink1Description: Manufacturer URL; ComponentLink1URL: http://www.ti.com/; ComponentLink2Description: Datasheet; ComponentLink2URL: http://www.ti.com/lit/ds/symlink/cd74hc393.pdf; ComponentLink3Description: Package Specification; ComponentLink3URL: http://www.ti.com/lit/ml/mpds177g/mpds177g.pdf
footprint D0014A_N (SOIC, 14-Leads, Body 8.75x4mm, Pitch 1.27mm, IPC Medium Density)
footprint D0014A_M (SOIC, 14-Leads, Body 8.75x4mm, Pitch 1.27mm, IPC Low Density)
footprint D0014A_L (SOIC, 14-Leads, Body 8.75x4mm, Pitch 1.27mm, IPC High Density)
part A pins: 1 ~{1CP} (in), 2 1MR (in), 3 1Q0 (out), 4 1Q1 (out), 5 1Q2 (out), 6 1Q3 (out)
part B pins: 8 2Q3 (out), 9 2Q2 (out), 10 2Q1 (out), 11 2Q0 (out), 12 2MR (in), 13 ~{2CP} (in)
part C pins: 7 GND (power), 14 VCC (power)

## CD74HC393M96
designator U?
High Speed CMOS Logic Dual 4-Stage Binary Counters, D0014A, LARGE T&R; Generic Part Number: CD74HC393; Manufacturer: Texas Instruments; PartNumber: CD74HC393M96; VCC(Min)(V): 2; VCC(Max)(V): 6; Inputs: 1; ICC @ Nom Voltage(Max)(mA): 0.08; Input Type: LVTTL/CMOS; Bits(#): 4; F @ Nom Voltage(Max)(Mhz): 28; Rating: Catalog; Technology Family: HC; Voltage(Nom)(V): 3.3,5; Schmitt Trigger: No; Output Drive (IOL/IOH)(Max)(mA): 5.2/-5.2; tpd @ Nom Voltage(Max)(ns): 60; DatasheetVersion: SCHS186E; PackageReference: D0014A; Supplier 1: Mouser; Supplier Part Number 1: 595-CD74HC393M96; Supplier 2: Digi-Key; Supplier Part Number 2: 296-31583-2-ND; Supplier 3: Digi-Key; Supplier Part Number 3: 296-31583-1-ND; Supplier 4: Digi-Key; Supplier Part Number 4: 296-31583-6-ND; Output Type: CMOS; Function: Counter; Operating Temperature Range(C): -55 to 125; Type: Binary; Code_JEDEC: MS-012; ComponentLink1Description: Manufacturer URL; ComponentLink1URL: http://www.ti.com/; ComponentLink2Description: Datasheet; ComponentLink2URL: http://www.ti.com/lit/ds/symlink/cd74hc393.pdf; ComponentLink3Description: Package Specification; ComponentLink3URL: http://www.ti.com/lit/ml/mpds177g/mpds177g.pdf
footprint D0014A_N (SOIC, 14-Leads, Body 8.75x4mm, Pitch 1.27mm, IPC Medium Density)
footprint D0014A_M (SOIC, 14-Leads, Body 8.75x4mm, Pitch 1.27mm, IPC Low Density)
footprint D0014A_L (SOIC, 14-Leads, Body 8.75x4mm, Pitch 1.27mm, IPC High Density)
part A pins: 1 ~{1CP} (in), 2 1MR (in), 3 1Q0 (out), 4 1Q1 (out), 5 1Q2 (out), 6 1Q3 (out)
part B pins: 8 2Q3 (out), 9 2Q2 (out), 10 2Q1 (out), 11 2Q0 (out), 12 2MR (in), 13 ~{2CP} (in)
part C pins: 7 GND (power), 14 VCC (power)

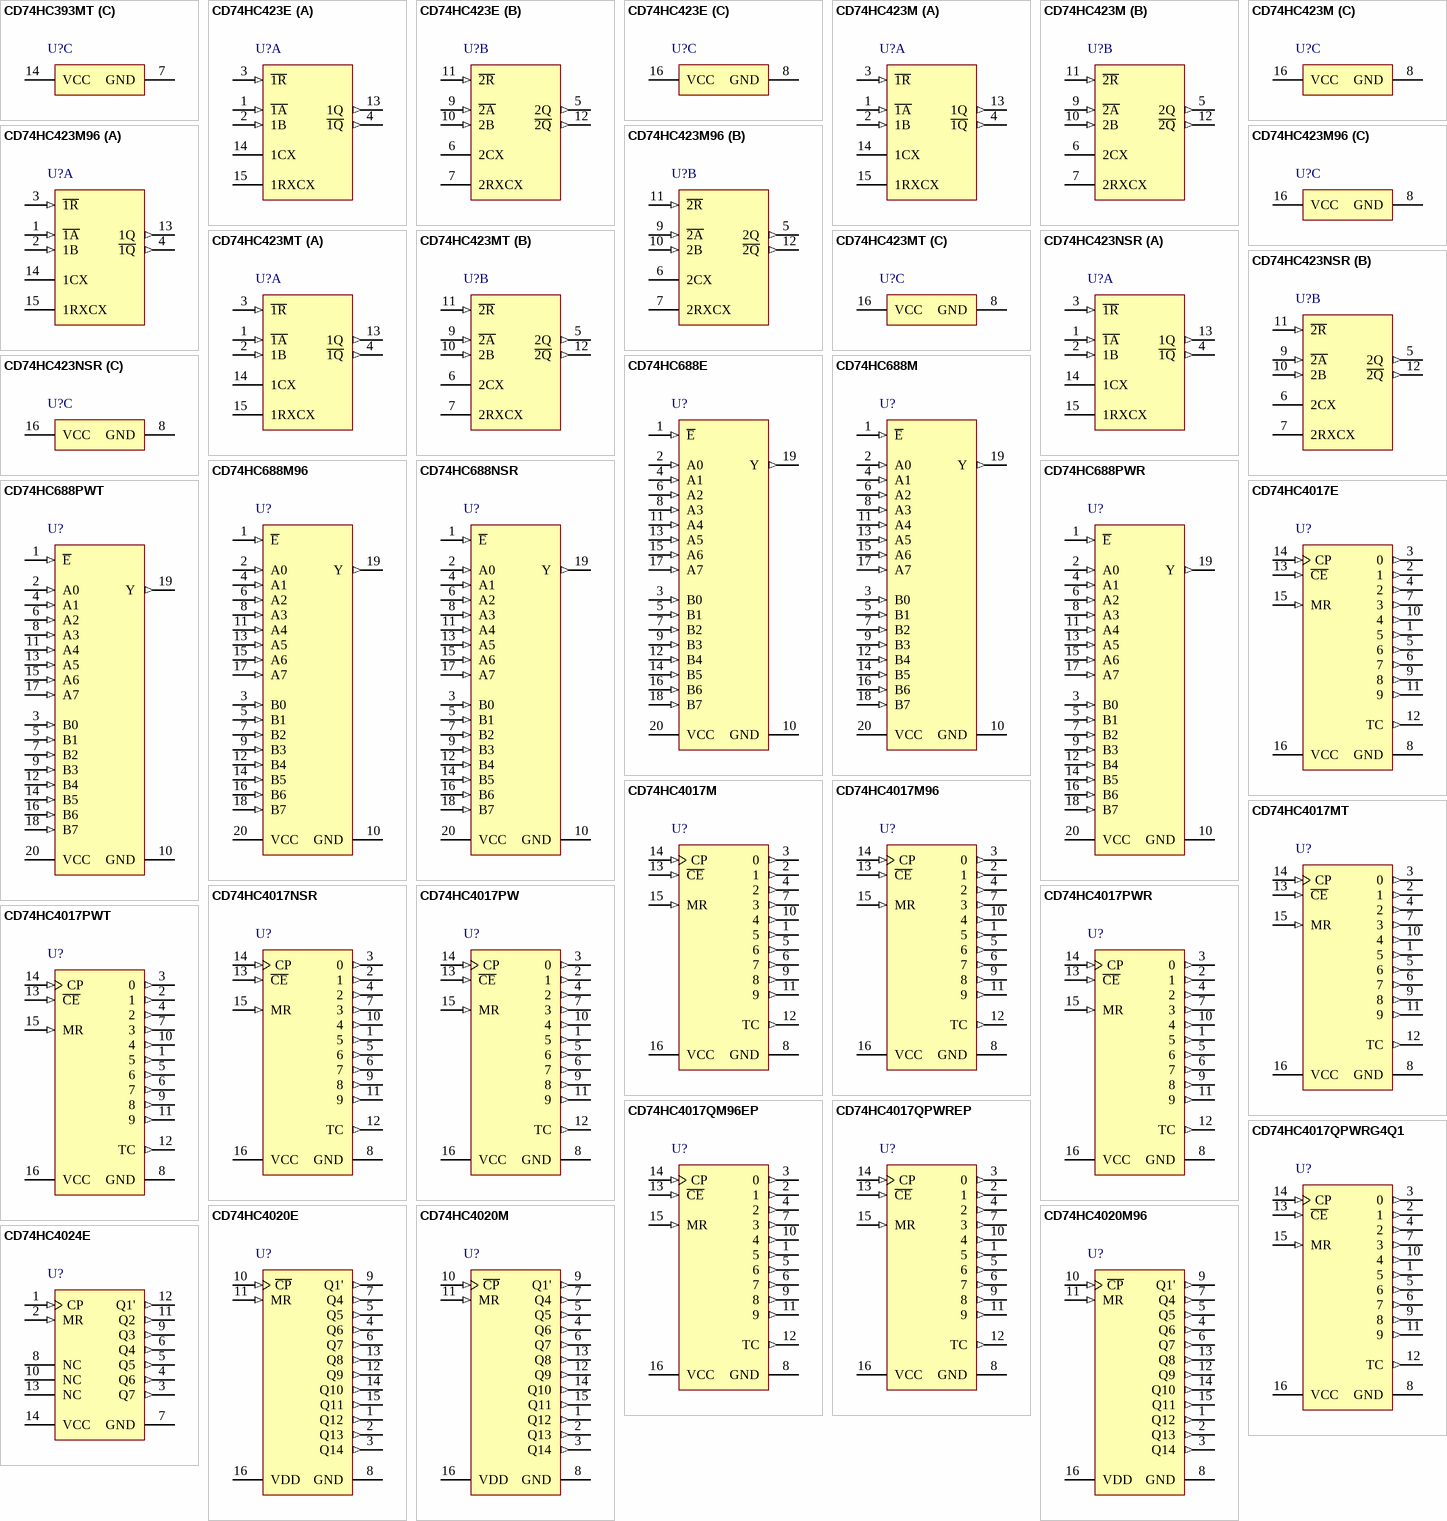
[diagram p14: symbols CD74HC393MT to CD74HC4024E]

## CD74HC393MT
designator U?
High Speed CMOS Logic Dual 4-Stage Binary Counters, D0014A, SMALL T&R; Generic Part Number: CD74HC393; Manufacturer: Texas Instruments; PartNumber: CD74HC393MT; VCC(Min)(V): 2; VCC(Max)(V): 6; Inputs: 1; ICC @ Nom Voltage(Max)(mA): 0.08; Input Type: LVTTL/CMOS; Bits(#): 4; F @ Nom Voltage(Max)(Mhz): 28; Rating: Catalog; Technology Family: HC; Voltage(Nom)(V): 3.3,5; Schmitt Trigger: No; Output Drive (IOL/IOH)(Max)(mA): 5.2/-5.2; tpd @ Nom Voltage(Max)(ns): 60; DatasheetVersion: SCHS186E; PackageReference: D0014A; Supplier 1: Mouser; Supplier Part Number 1: 595-CD74HC393MT; Supplier 2: Digi-Key; Supplier Part Number 2: 296-28578-2-ND; Supplier 3: Digi-Key; Supplier Part Number 3: 296-28578-1-ND; Supplier 4: Digi-Key; Supplier Part Number 4: 296-28578-6-ND; Output Type: CMOS; Function: Counter; Operating Temperature Range(C): -55 to 125; Type: Binary; Code_JEDEC: MS-012; ComponentLink1Description: Manufacturer URL; ComponentLink1URL: http://www.ti.com/; ComponentLink2Description: Datasheet; ComponentLink2URL: http://www.ti.com/lit/ds/symlink/cd74hc393.pdf; ComponentLink3Description: Package Specification; ComponentLink3URL: http://www.ti.com/lit/ml/mpds177g/mpds177g.pdf
footprint D0014A_N (SOIC, 14-Leads, Body 8.75x4mm, Pitch 1.27mm, IPC Medium Density)
footprint D0014A_M (SOIC, 14-Leads, Body 8.75x4mm, Pitch 1.27mm, IPC Low Density)
footprint D0014A_L (SOIC, 14-Leads, Body 8.75x4mm, Pitch 1.27mm, IPC High Density)
part A pins: 1 ~{1CP} (in), 2 1MR (in), 3 1Q0 (out), 4 1Q1 (out), 5 1Q2 (out), 6 1Q3 (out)
part B pins: 8 2Q3 (out), 9 2Q2 (out), 10 2Q1 (out), 11 2Q0 (out), 12 2MR (in), 13 ~{2CP} (in)
part C pins: 7 GND (power), 14 VCC (power)

## CD74HC423E
designator U?
High Speed CMOS Logic Dual Retriggerable Monostable Multivibrators with Reset, N0016A, TUBE; Generic Part Number: CD74HC423; Manufacturer: Texas Instruments; PartNumber: CD74HC423E; VCC(Min)(V): 2; VCC(Max)(V): 6; ICC @ Nom Voltage(Max)(mA): 0.08; Input Type: LVTTL/CMOS; F @ Nom Voltage(Max)(Mhz): 70; Rating: Catalog; Technology Family: HC; Voltage(Nom)(V): 3.3,5; Schmitt Trigger: No; Output Drive (IOL/IOH)(Max)(mA): 5.2/-5.2; tpd @ Nom Voltage(Max)(ns): 68; DatasheetVersion: SCHS142F; PackageReference: N0016A; Supplier 1: Mouser; Supplier Part Number 1: 595-CD74HC423E; Supplier 2: Digi-Key; Supplier Part Number 2: 296-9229-5-ND; Output Type: CMOS; Bits(#): 2; Operating Temperature Range(C): -55 to 125; Code_JEDEC: MS-001; ComponentLink1Description: Manufacturer URL; ComponentLink1URL: http://www.ti.com/; ComponentLink2Description: Datasheet; ComponentLink2URL: http://www.ti.com/lit/ds/symlink/cd74hc423.pdf; ComponentLink3Description: Package Specification; ComponentLink3URL: http://www.ti.com/lit/ml/mpdi002c/mpdi002c.pdf
footprint N0016A (DIP, 16-Leads, Body 19.7x6.6mm, Pitch 2.54mm)
part A pins: 1 ~{1A} (in), 2 1B (in), 3 ~{1R} (in), 4 ~{1Q} (out), 13 1Q (out), 14 1CX, 15 1RXCX
part B pins: 5 2Q (out), 6 2CX, 7 2RXCX, 9 ~{2A} (in), 10 2B (in), 11 ~{2R} (in), 12 ~{2Q} (out)
part C pins: 8 GND (power), 16 VCC (power)

## CD74HC423M
designator U?
High Speed CMOS Logic Dual Retriggerable Monostable Multivibrators with Reset, D0016A, TUBE; Generic Part Number: CD74HC423; Manufacturer: Texas Instruments; PartNumber: CD74HC423M; VCC(Min)(V): 2; VCC(Max)(V): 6; ICC @ Nom Voltage(Max)(mA): 0.08; Input Type: LVTTL/CMOS; F @ Nom Voltage(Max)(Mhz): 70; Rating: Catalog; Technology Family: HC; Voltage(Nom)(V): 3.3,5; Schmitt Trigger: No; Output Drive (IOL/IOH)(Max)(mA): 5.2/-5.2; tpd @ Nom Voltage(Max)(ns): 68; DatasheetVersion: SCHS142F; PackageReference: D0016A; Supplier 1: Mouser; Supplier Part Number 1: 595-CD74HC423M; Supplier 2: Digi-Key; Supplier Part Number 2: 296-26004-5-ND; Output Type: CMOS; Bits(#): 2; Operating Temperature Range(C): -55 to 125; Code_JEDEC: MS-012 variation AC; ComponentLink1Description: Manufacturer URL; ComponentLink1URL: http://www.ti.com/; ComponentLink2Description: Datasheet; ComponentLink2URL: http://www.ti.com/lit/ds/symlink/cd74hc423.pdf; ComponentLink3Description: Package Specification; ComponentLink3URL: http://www.ti.com/lit/ml/mpds178g/mpds178g.pdf
footprint D0016A_N (SOIC, 16-Leads, Body 10x4mm, Pitch 1.27mm, IPC Medium Density)
footprint D0016A_M (SOIC, 16-Leads, Body 10x4mm, Pitch 1.27mm, IPC Low Density)
footprint D0016A_L (SOIC, 16-Leads, Body 10x4mm, Pitch 1.27mm, IPC High Density)
part A pins: 1 ~{1A} (in), 2 1B (in), 3 ~{1R} (in), 4 ~{1Q} (out), 13 1Q (out), 14 1CX, 15 1RXCX
part B pins: 5 2Q (out), 6 2CX, 7 2RXCX, 9 ~{2A} (in), 10 2B (in), 11 ~{2R} (in), 12 ~{2Q} (out)
part C pins: 8 GND (power), 16 VCC (power)

## CD74HC423M96
designator U?
High Speed CMOS Logic Dual Retriggerable Monostable Multivibrators with Reset, D0016A, LARGE T&R; Generic Part Number: CD74HC423; Manufacturer: Texas Instruments; PartNumber: CD74HC423M96; VCC(Min)(V): 2; VCC(Max)(V): 6; ICC @ Nom Voltage(Max)(mA): 0.08; Input Type: LVTTL/CMOS; F @ Nom Voltage(Max)(Mhz): 70; Rating: Catalog; Technology Family: HC; Voltage(Nom)(V): 3.3,5; Schmitt Trigger: No; Output Drive (IOL/IOH)(Max)(mA): 5.2/-5.2; tpd @ Nom Voltage(Max)(ns): 68; DatasheetVersion: SCHS142F; PackageReference: D0016A; Supplier 1: Mouser; Supplier Part Number 1: 595-CD74HC423M96; Supplier 2: Digi-Key; Supplier Part Number 2: 296-37333-2-ND; Supplier 3: Digi-Key; Supplier Part Number 3: 296-37333-1-ND; Supplier 4: Digi-Key; Supplier Part Number 4: 296-37333-6-ND; Output Type: CMOS; Bits(#): 2; Operating Temperature Range(C): -55 to 125; Code_JEDEC: MS-012 variation AC; ComponentLink1Description: Manufacturer URL; ComponentLink1URL: http://www.ti.com/; ComponentLink2Description: Datasheet; ComponentLink2URL: http://www.ti.com/lit/ds/symlink/cd74hc423.pdf; ComponentLink3Description: Package Specification; ComponentLink3URL: http://www.ti.com/lit/ml/mpds178g/mpds178g.pdf
footprint D0016A_N (SOIC, 16-Leads, Body 10x4mm, Pitch 1.27mm, IPC Medium Density)
footprint D0016A_M (SOIC, 16-Leads, Body 10x4mm, Pitch 1.27mm, IPC Low Density)
footprint D0016A_L (SOIC, 16-Leads, Body 10x4mm, Pitch 1.27mm, IPC High Density)
part A pins: 1 ~{1A} (in), 2 1B (in), 3 ~{1R} (in), 4 ~{1Q} (out), 13 1Q (out), 14 1CX, 15 1RXCX
part B pins: 5 2Q (out), 6 2CX, 7 2RXCX, 9 ~{2A} (in), 10 2B (in), 11 ~{2R} (in), 12 ~{2Q} (out)
part C pins: 8 GND (power), 16 VCC (power)

## CD74HC423MT
designator U?
High Speed CMOS Logic Dual Retriggerable Monostable Multivibrators with Reset, D0016A, SMALL T&R; Generic Part Number: CD74HC423; Manufacturer: Texas Instruments; PartNumber: CD74HC423MT; VCC(Min)(V): 2; VCC(Max)(V): 6; ICC @ Nom Voltage(Max)(mA): 0.08; Input Type: LVTTL/CMOS; F @ Nom Voltage(Max)(Mhz): 70; Rating: Catalog; Technology Family: HC; Voltage(Nom)(V): 3.3,5; Schmitt Trigger: No; Output Drive (IOL/IOH)(Max)(mA): 5.2/-5.2; tpd @ Nom Voltage(Max)(ns): 68; DatasheetVersion: SCHS142F; PackageReference: D0016A; Supplier 1: Mouser; Supplier Part Number 1: 595-CD74HC423MT; Supplier 2: Digi-Key; Supplier Part Number 2: CD74HC423MT-ND; Output Type: CMOS; Bits(#): 2; Operating Temperature Range(C): -55 to 125; Code_JEDEC: MS-012 variation AC; ComponentLink1Description: Manufacturer URL; ComponentLink1URL: http://www.ti.com/; ComponentLink2Description: Datasheet; ComponentLink2URL: http://www.ti.com/lit/ds/symlink/cd74hc423.pdf; ComponentLink3Description: Package Specification; ComponentLink3URL: http://www.ti.com/lit/ml/mpds178g/mpds178g.pdf
footprint D0016A_N (SOIC, 16-Leads, Body 10x4mm, Pitch 1.27mm, IPC Medium Density)
footprint D0016A_M (SOIC, 16-Leads, Body 10x4mm, Pitch 1.27mm, IPC Low Density)
footprint D0016A_L (SOIC, 16-Leads, Body 10x4mm, Pitch 1.27mm, IPC High Density)
part A pins: 1 ~{1A} (in), 2 1B (in), 3 ~{1R} (in), 4 ~{1Q} (out), 13 1Q (out), 14 1CX, 15 1RXCX
part B pins: 5 2Q (out), 6 2CX, 7 2RXCX, 9 ~{2A} (in), 10 2B (in), 11 ~{2R} (in), 12 ~{2Q} (out)
part C pins: 8 GND (power), 16 VCC (power)

## CD74HC423NSR
designator U?
High Speed CMOS Logic Dual Retriggerable Monostable Multivibrators with Reset, NS0016A, LARGE T&R; Generic Part Number: CD74HC423; Manufacturer: Texas Instruments; PartNumber: CD74HC423NSR; VCC(Min)(V): 2; VCC(Max)(V): 6; ICC @ Nom Voltage(Max)(mA): 0.08; Input Type: LVTTL/CMOS; F @ Nom Voltage(Max)(Mhz): 70; Rating: Catalog; Technology Family: HC; Voltage(Nom)(V): 3.3,5; Schmitt Trigger: No; Output Drive (IOL/IOH)(Max)(mA): 5.2/-5.2; tpd @ Nom Voltage(Max)(ns): 68; DatasheetVersion: SCHS142F; PackageReference: NS0016A; Supplier 1: Mouser; Supplier Part Number 1: 595-CD74HC423NSR; Supplier 2: Digi-Key; Supplier Part Number 2: 296-31597-2-ND; Supplier 3: Digi-Key; Supplier Part Number 3: 296-31597-1-ND; Supplier 4: Digi-Key; Supplier Part Number 4: 296-31597-6-ND; Output Type: CMOS; Bits(#): 2; Operating Temperature Range(C): -55 to 125; ComponentLink1Description: Manufacturer URL; ComponentLink1URL: http://www.ti.com/; ComponentLink2Description: Datasheet; ComponentLink2URL: http://www.ti.com/lit/ds/symlink/cd74hc423.pdf; ComponentLink3Description: Package Specification; ComponentLink3URL: http://www.ti.com/lit/ml/msop002a/msop002a.pdf
footprint NS0016A_N (SOIC,16-Leads,Body 10.5x5.6mm,Pitch 1.27mm,IPC Medium Density)
footprint NS0016A_M (SOIC,16-Leads,Body 10.5x5.6mm,Pitch 1.27mm,IPC Low Density)
footprint NS0016A_L (SOIC,16-Leads,Body 10.5x5.6mm,Pitch 1.27mm,IPC High Density)
part A pins: 1 ~{1A} (in), 2 1B (in), 3 ~{1R} (in), 4 ~{1Q} (out), 13 1Q (out), 14 1CX, 15 1RXCX
part B pins: 5 2Q (out), 6 2CX, 7 2RXCX, 9 ~{2A} (in), 10 2B (in), 11 ~{2R} (in), 12 ~{2Q} (out)
part C pins: 8 GND (power), 16 VCC (power)

## CD74HC688E
designator U?
8-Bit Identity/Magnitude Comparators (P=Q) with Enable, N0020A, TUBE; Generic Part Number: CD74HC688; Manufacturer: Texas Instruments; PartNumber: CD74HC688E; VCC(Min)(V): 2; VCC(Max)(V): 6; Output Type: CMOS; ICC @ Nom Voltage(Max)(mA): 0.08; Bits(#): 8; F @ Nom Voltage(Max)(Mhz): 70; Rating: Catalog; Technology Family: HC; Schmitt Trigger: No; Output Drive (IOL/IOH)(Max)(mA): 5.2/-5.2; tpd @ Nom Voltage(Max)(ns): 36; DatasheetVersion: SCHS196C; PackageReference: N0020A; Supplier 1: Mouser; Supplier Part Number 1: 595-CD74HC688E; Supplier 2: Digi-Key; Supplier Part Number 2: 296-33117-5-ND; Input Type: CMOS; Operating Temperature Range(C): -55 to 125; Voltage(Nom)(V): 6; ComponentLink1Description: Manufacturer URL; ComponentLink1URL: http://www.ti.com/; ComponentLink2Description: Datasheet; ComponentLink2URL: http://www.ti.com/lit/ds/symlink/cd74hc688.pdf
footprint N0020A (DIP, 20-Leads, Body 26.9x6.6mm, Pitch 2.54mm)
pins: 1 ~{E} (in), 2 A0 (in), 3 B0 (in), 4 A1 (in), 5 B1 (in), 6 A2 (in), 7 B2 (in), 8 A3 (in), 9 B3 (in), 10 GND (power), 11 A4 (in), 12 B4 (in), 13 A5 (in), 14 B5 (in), 15 A6 (in), 16 B6 (in), 17 A7 (in), 18 B7 (in), 19 Y (out), 20 VCC (power)

## CD74HC688M
designator U?
8-Bit Identity/Magnitude Comparators (P=Q) with Enable, DW0020A, TUBE; Generic Part Number: CD74HC688; Manufacturer: Texas Instruments; PartNumber: CD74HC688M; VCC(Min)(V): 2; VCC(Max)(V): 6; Output Type: CMOS; ICC @ Nom Voltage(Max)(mA): 0.08; Bits(#): 8; F @ Nom Voltage(Max)(Mhz): 70; Rating: Catalog; Technology Family: HC; Schmitt Trigger: No; Output Drive (IOL/IOH)(Max)(mA): 5.2/-5.2; tpd @ Nom Voltage(Max)(ns): 36; DatasheetVersion: SCHS196C; PackageReference: DW0020A; Supplier 1: Mouser; Supplier Part Number 1: 595-CD74HC688M; Supplier 2: Digi-Key; Supplier Part Number 2: 296-33118-5-ND; Input Type: CMOS; Operating Temperature Range(C): -55 to 125; Voltage(Nom)(V): 6; ComponentLink1Description: Manufacturer URL; ComponentLink1URL: http://www.ti.com/; ComponentLink2Description: Datasheet; ComponentLink2URL: http://www.ti.com/lit/ds/symlink/cd74hc688.pdf
footprint DW0020A_N (SOIC, 20-Leads, Body 13x7.6mm, Pitch 1.27mm, IPC Medium Density)
footprint DW0020A_M (SOIC, 20-Leads, Body 13x7.6mm, Pitch 1.27mm, IPC Low Density)
footprint DW0020A_L (SOIC, 20-Leads, Body 13x7.6mm, Pitch 1.27mm, IPC High Density)
pins: 1 ~{E} (in), 2 A0 (in), 3 B0 (in), 4 A1 (in), 5 B1 (in), 6 A2 (in), 7 B2 (in), 8 A3 (in), 9 B3 (in), 10 GND (power), 11 A4 (in), 12 B4 (in), 13 A5 (in), 14 B5 (in), 15 A6 (in), 16 B6 (in), 17 A7 (in), 18 B7 (in), 19 Y (out), 20 VCC (power)

## CD74HC688M96
designator U?
8-Bit Identity/Magnitude Comparators (P=Q) with Enable, DW0020A, LARGE T&R; Generic Part Number: CD74HC688; Manufacturer: Texas Instruments; PartNumber: CD74HC688M96; VCC(Min)(V): 2; VCC(Max)(V): 6; Output Type: CMOS; ICC @ Nom Voltage(Max)(mA): 0.08; Bits(#): 8; F @ Nom Voltage(Max)(Mhz): 70; Rating: Catalog; Technology Family: HC; Schmitt Trigger: No; Output Drive (IOL/IOH)(Max)(mA): 5.2/-5.2; tpd @ Nom Voltage(Max)(ns): 36; DatasheetVersion: SCHS196C; PackageReference: DW0020A; Supplier 1: Mouser; Supplier Part Number 1: 595-CD74HC688M96; Supplier 2: Digi-Key; Supplier Part Number 2: 296-38069-2-ND; Supplier 3: Digi-Key; Supplier Part Number 3: 296-38069-1-ND; Supplier 4: Digi-Key; Supplier Part Number 4: 296-38069-6-ND; Input Type: CMOS; Operating Temperature Range(C): -55 to 125; Voltage(Nom)(V): 6; ComponentLink1Description: Manufacturer URL; ComponentLink1URL: http://www.ti.com/; ComponentLink2Description: Datasheet; ComponentLink2URL: http://www.ti.com/lit/ds/symlink/cd74hc688.pdf
footprint DW0020A_N (SOIC, 20-Leads, Body 13x7.6mm, Pitch 1.27mm, IPC Medium Density)
footprint DW0020A_M (SOIC, 20-Leads, Body 13x7.6mm, Pitch 1.27mm, IPC Low Density)
footprint DW0020A_L (SOIC, 20-Leads, Body 13x7.6mm, Pitch 1.27mm, IPC High Density)
pins: 1 ~{E} (in), 2 A0 (in), 3 B0 (in), 4 A1 (in), 5 B1 (in), 6 A2 (in), 7 B2 (in), 8 A3 (in), 9 B3 (in), 10 GND (power), 11 A4 (in), 12 B4 (in), 13 A5 (in), 14 B5 (in), 15 A6 (in), 16 B6 (in), 17 A7 (in), 18 B7 (in), 19 Y (out), 20 VCC (power)

## CD74HC688NSR
designator U?
8-Bit Identity/Magnitude Comparators (P=Q) with Enable, NS0020A, LARGE T&R; Generic Part Number: CD74HC688; Manufacturer: Texas Instruments; PartNumber: CD74HC688NSR; VCC(Min)(V): 2; VCC(Max)(V): 6; Output Type: CMOS; ICC @ Nom Voltage(Max)(mA): 0.08; Bits(#): 8; F @ Nom Voltage(Max)(Mhz): 70; Rating: Catalog; Technology Family: HC; Schmitt Trigger: No; Output Drive (IOL/IOH)(Max)(mA): 5.2/-5.2; tpd @ Nom Voltage(Max)(ns): 36; DatasheetVersion: SCHS196C; PackageReference: NS0020A; Supplier 1: Mouser; Supplier Part Number 1: 595-CD74HC688NSR; Supplier 2: Digi-Key; Supplier Part Number 2: 296-38701-2-ND; Supplier 3: Digi-Key; Supplier Part Number 3: 296-38701-1-ND; Supplier 4: Digi-Key; Supplier Part Number 4: 296-38701-6-ND; Input Type: CMOS; Operating Temperature Range(C): -55 to 125; Voltage(Nom)(V): 6; ComponentLink1Description: Manufacturer URL; ComponentLink1URL: http://www.ti.com/; ComponentLink2Description: Datasheet; ComponentLink2URL: http://www.ti.com/lit/ds/symlink/cd74hc688.pdf
footprint NS0020A_N (SOIC,20-Leads,Body 12.9x5.6mm,Pitch 1.27mm,IPC Medium Density)
footprint NS0020A_M (SOIC,20-Leads,Body 12.9x5.6mm,Pitch 1.27mm,IPC Low Density)
footprint NS0020A_L (SOIC,20-Leads,Body 12.9x5.6mm,Pitch 1.27mm,IPC High Density)
pins: 1 ~{E} (in), 2 A0 (in), 3 B0 (in), 4 A1 (in), 5 B1 (in), 6 A2 (in), 7 B2 (in), 8 A3 (in), 9 B3 (in), 10 GND (power), 11 A4 (in), 12 B4 (in), 13 A5 (in), 14 B5 (in), 15 A6 (in), 16 B6 (in), 17 A7 (in), 18 B7 (in), 19 Y (out), 20 VCC (power)